# EAGLE library part XR-T56L85P (library exar)
2MBPS PCM LINE INTERFACE
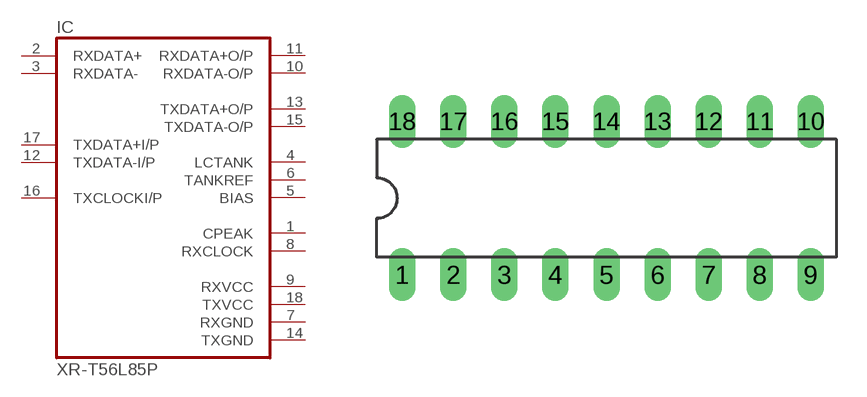
[diagram p23: symbol with the pads of DIL18; footprint DIL18]

Designator prefix IC

## XR-T56L85P (OC_FARNELL: unknown; OC_NEWARK: unknown)  [DIL18]
1  CPEAK  out
2  RXDATA+  in
3  RXDATA-  in
4  LCTANK  out
5  BIAS  out
6  TANKREF  out
7  RXGND  pwr
8  RXCLOCK  out
9  RXVCC  pwr
10  RXDATA-O/P  out
11  RXDATA+O/P  out
12  TXDATA-I/P  in
13  TXDATA+O/P  out
14  TXGND  pwr
15  TXDATA-O/P  out
16  TXCLOCKI/P  in
17  TXDATA+I/P  in
18  TXVCC  pwr

## Footprint DIL18 (pad centres in mm)
Dual In Line Package
drill 0.813 long: 1 -10.16,-3.81; 2 -7.62,-3.81; 3 -5.08,-3.81; 4 -2.54,-3.81; 5 0,-3.81; 6 2.54,-3.81; 7 5.08,-3.81; 8 7.62,-3.81; 9 10.16,-3.81; 10 10.16,3.81; 11 7.62,3.81; 12 5.08,3.81; 13 2.54,3.81; 14 0,3.81; 15 -2.54,3.81; 16 -5.08,3.81; 17 -7.62,3.81; 18 -10.16,3.81